# EAGLE library part TXS0102 (library parts)
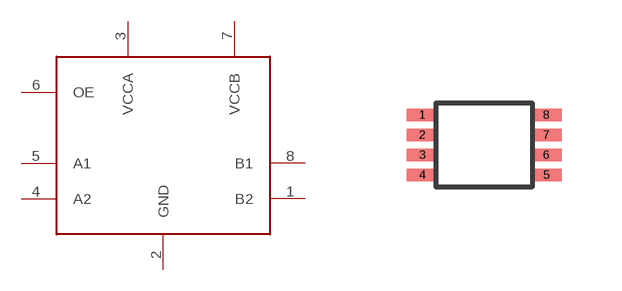
[diagram p9: symbol with the pads of VSSOP-8; footprint VSSOP-8]

Designator prefix -

## TXS0102  [VSSOP-8]
1  B2
2  GND
3  VCCA
4  A2
5  A1
6  OE
7  VCCB
8  B1

## Footprint VSSOP-8 (pad centres in mm)
smd 0.8 x 0.3: 1 -1.55,0.75; 2 -1.55,0.25; 3 -1.55,-0.25; 4 -1.55,-0.75; 5 1.55,-0.75; 6 1.55,-0.25; 7 1.55,0.25; 8 1.55,0.75